# Altium footprint library Gelnar.PcbLib: 295 footprints (part 18 of 19)
Each footprint in its own frame and in the unit in brackets; x right, y up, seen from the top. Pads: shape width x height; smd on the part's side, far side on the other; paste and mask are expansions set on the pad; w line width, h text height; cw(c..) or ccw(c..) is an arc to the next point about the centre after c.
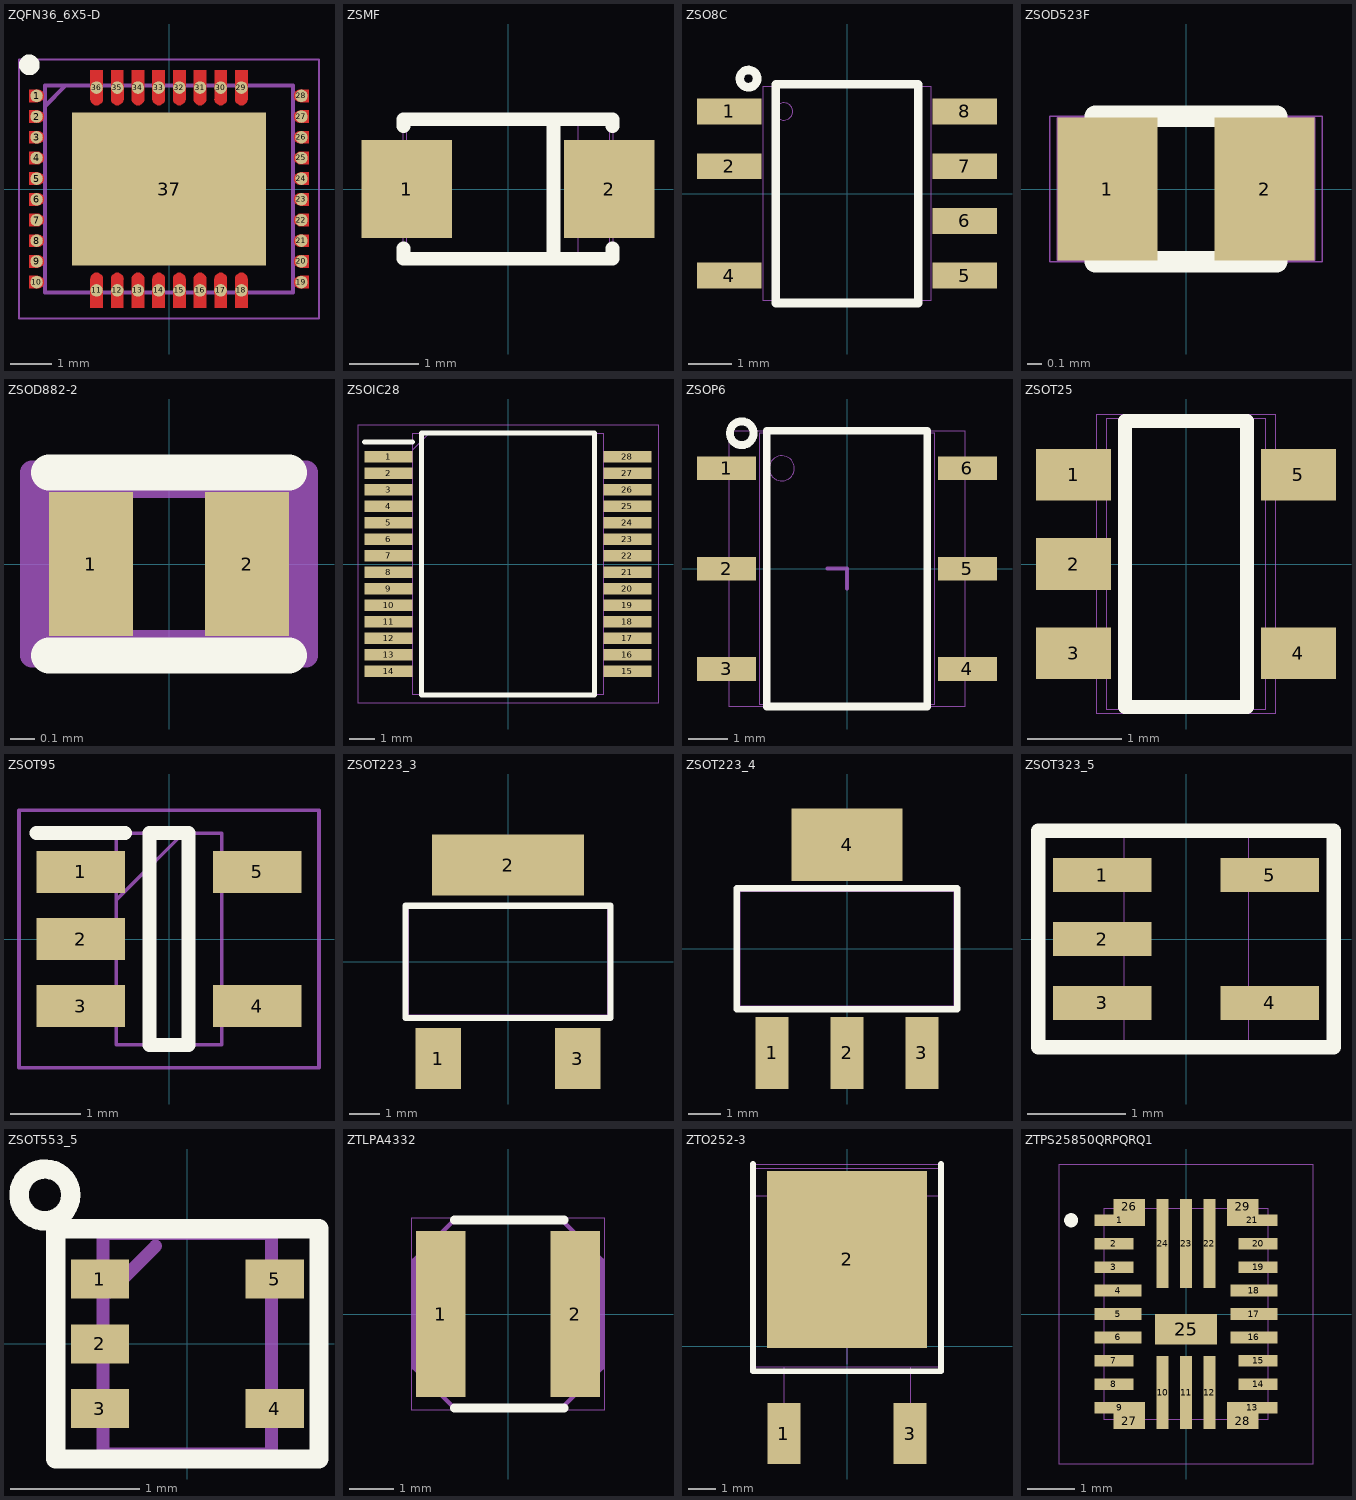
[diagram p17: the footprints below, top view; thin cyan lines are the x and y axes]

## ZQFN36_6X5-D [mm]
pads (37):
  round 0.3 smd: 1(-3.2,2.25) 2(-3.2,1.75) 3(-3.2,1.25) 4(-3.2,0.75) 5(-3.2,0.25) 6(-3.2,-0.25) 7(-3.2,-0.75) 8(-3.2,-1.25) 9(-3.2,-1.75) 10(-3.2,-2.25) 11(-1.75,-2.45) 12(-1.25,-2.45) 13(-0.75,-2.45) 14(-0.25,-2.45) 15(0.25,-2.45) 16(0.75,-2.45) 17(1.25,-2.45) 18(1.75,-2.45) 19(3.2,-2.25) 20(3.2,-1.75) 21(3.2,-1.25) 22(3.2,-0.75) 23(3.2,-0.25) 24(3.2,0.25) 25(3.2,0.75) 26(3.2,1.25) 27(3.2,1.75) 28(3.2,2.25) 29(1.75,2.45) 30(1.25,2.45) 31(0.75,2.45) 32(0.25,2.45) 33(-0.25,2.45) 34(-0.75,2.45) 35(-1.25,2.45) 36(-1.75,2.45)
  rect 4.7x3.7 smd: 37(0,0)
L1-Top Layer:
  region: -3.375,2.4 -3.175,2.401 -3.136,2.396 -3.099,2.381 -3.068,2.357 -3.044,2.326 -3.029,2.289 -3.024,2.25 -3.029,2.211 -3.044,2.174 -3.068,2.143 -3.099,2.119 -3.136,2.104 -3.175,2.099 -3.175,2.1 -3.375,2.1
  region: -3.375,1.9 -3.175,1.901 -3.136,1.896 -3.099,1.881 -3.068,1.857 -3.044,1.826 -3.029,1.789 -3.024,1.75 -3.029,1.711 -3.044,1.674 -3.068,1.643 -3.099,1.619 -3.136,1.604 -3.175,1.599 -3.175,1.6 -3.375,1.6
  region: -3.375,1.4 -3.175,1.401 -3.136,1.396 -3.099,1.381 -3.068,1.357 -3.044,1.326 -3.029,1.289 -3.024,1.25 -3.029,1.211 -3.044,1.174 -3.068,1.143 -3.099,1.119 -3.136,1.104 -3.175,1.099 -3.175,1.1 -3.375,1.1
  region: -3.375,0.9 -3.175,0.901 -3.136,0.896 -3.099,0.881 -3.068,0.857 -3.044,0.826 -3.029,0.789 -3.024,0.75 -3.029,0.711 -3.044,0.674 -3.068,0.643 -3.099,0.619 -3.136,0.604 -3.175,0.599 -3.175,0.6 -3.375,0.6
  region: -3.375,0.4 -3.175,0.401 -3.136,0.396 -3.099,0.381 -3.068,0.357 -3.044,0.326 -3.029,0.289 -3.024,0.25 -3.029,0.211 -3.044,0.174 -3.068,0.143 -3.099,0.119 -3.136,0.104 -3.175,0.099 -3.175,0.1 -3.375,0.1
  region: -3.375,-0.1 -3.175,-0.099 -3.136,-0.104 -3.099,-0.119 -3.068,-0.143 -3.044,-0.174 -3.029,-0.211 -3.024,-0.25 -3.029,-0.289 -3.044,-0.326 -3.068,-0.357 -3.099,-0.381 -3.136,-0.396 -3.175,-0.401 -3.175,-0.4 -3.375,-0.4
  region: -3.375,-0.6 -3.175,-0.599 -3.136,-0.604 -3.099,-0.619 -3.068,-0.643 -3.044,-0.674 -3.029,-0.711 -3.024,-0.75 -3.029,-0.789 -3.044,-0.826 -3.068,-0.857 -3.099,-0.881 -3.136,-0.896 -3.175,-0.901 -3.175,-0.9 -3.375,-0.9
  region: -3.375,-1.1 -3.175,-1.099 -3.136,-1.104 -3.099,-1.119 -3.068,-1.143 -3.044,-1.174 -3.029,-1.211 -3.024,-1.25 -3.029,-1.289 -3.044,-1.326 -3.068,-1.357 -3.099,-1.381 -3.136,-1.396 -3.175,-1.401 -3.175,-1.4 -3.375,-1.4
  region: -3.375,-1.6 -3.175,-1.599 -3.136,-1.604 -3.099,-1.619 -3.068,-1.643 -3.044,-1.674 -3.029,-1.711 -3.024,-1.75 -3.029,-1.789 -3.044,-1.826 -3.068,-1.857 -3.099,-1.881 -3.136,-1.896 -3.175,-1.901 -3.175,-1.9 -3.375,-1.9
  region: -3.375,-2.1 -3.175,-2.099 -3.136,-2.104 -3.099,-2.119 -3.068,-2.143 -3.044,-2.174 -3.029,-2.211 -3.024,-2.25 -3.029,-2.289 -3.044,-2.326 -3.068,-2.357 -3.099,-2.381 -3.136,-2.396 -3.175,-2.401 -3.175,-2.4 -3.375,-2.4
  region: -1.9,-2.875 -1.901,-2.175 -1.896,-2.136 -1.881,-2.099 -1.857,-2.068 -1.826,-2.044 -1.789,-2.029 -1.75,-2.024 -1.711,-2.029 -1.674,-2.044 -1.643,-2.068 -1.619,-2.099 -1.604,-2.136 -1.599,-2.175 -1.6,-2.175 -1.6,-2.875
  region: -1.4,-2.875 -1.401,-2.175 -1.396,-2.136 -1.381,-2.099 -1.357,-2.068 -1.326,-2.044 -1.289,-2.029 -1.25,-2.024 -1.211,-2.029 -1.174,-2.044 -1.143,-2.068 -1.119,-2.099 -1.104,-2.136 -1.099,-2.175 -1.1,-2.175 -1.1,-2.875
  region: -0.9,-2.875 -0.901,-2.175 -0.896,-2.136 -0.881,-2.099 -0.857,-2.068 -0.826,-2.044 -0.789,-2.029 -0.75,-2.024 -0.711,-2.029 -0.674,-2.044 -0.643,-2.068 -0.619,-2.099 -0.604,-2.136 -0.599,-2.175 -0.6,-2.175 -0.6,-2.875
  region: -0.4,-2.875 -0.401,-2.175 -0.396,-2.136 -0.381,-2.099 -0.357,-2.068 -0.326,-2.044 -0.289,-2.029 -0.25,-2.024 -0.211,-2.029 -0.174,-2.044 -0.143,-2.068 -0.119,-2.099 -0.104,-2.136 -0.099,-2.175 -0.1,-2.175 -0.1,-2.875
  region: 0.1,-2.875 0.099,-2.175 0.104,-2.136 0.119,-2.099 0.143,-2.068 0.174,-2.044 0.211,-2.029 0.25,-2.024 0.289,-2.029 0.326,-2.044 0.357,-2.068 0.381,-2.099 0.396,-2.136 0.401,-2.175 0.4,-2.175 0.4,-2.875
  region: 0.6,-2.875 0.599,-2.175 0.604,-2.136 0.619,-2.099 0.643,-2.068 0.674,-2.044 0.711,-2.029 0.75,-2.024 0.789,-2.029 0.826,-2.044 0.857,-2.068 0.881,-2.099 0.896,-2.136 0.901,-2.175 0.9,-2.175 0.9,-2.875
  region: 1.1,-2.875 1.099,-2.175 1.104,-2.136 1.119,-2.099 1.143,-2.068 1.174,-2.044 1.211,-2.029 1.25,-2.024 1.289,-2.029 1.326,-2.044 1.357,-2.068 1.381,-2.099 1.396,-2.136 1.401,-2.175 1.4,-2.175 1.4,-2.875
  region: 1.6,-2.875 1.599,-2.175 1.604,-2.136 1.619,-2.099 1.643,-2.068 1.674,-2.044 1.711,-2.029 1.75,-2.024 1.789,-2.029 1.826,-2.044 1.857,-2.068 1.881,-2.099 1.896,-2.136 1.901,-2.175 1.9,-2.175 1.9,-2.875
  region: 3.375,-2.4 3.175,-2.401 3.136,-2.396 3.099,-2.381 3.068,-2.357 3.044,-2.326 3.029,-2.289 3.024,-2.25 3.029,-2.211 3.044,-2.174 3.068,-2.143 3.099,-2.119 3.136,-2.104 3.175,-2.099 3.175,-2.1 3.375,-2.1
  region: 3.375,-1.9 3.175,-1.901 3.136,-1.896 3.099,-1.881 3.068,-1.857 3.044,-1.826 3.029,-1.789 3.024,-1.75 3.029,-1.711 3.044,-1.674 3.068,-1.643 3.099,-1.619 3.136,-1.604 3.175,-1.599 3.175,-1.6 3.375,-1.6
  region: 3.375,-1.4 3.175,-1.401 3.136,-1.396 3.099,-1.381 3.068,-1.357 3.044,-1.326 3.029,-1.289 3.024,-1.25 3.029,-1.211 3.044,-1.174 3.068,-1.143 3.099,-1.119 3.136,-1.104 3.175,-1.099 3.175,-1.1 3.375,-1.1
  region: 3.375,-0.9 3.175,-0.901 3.136,-0.896 3.099,-0.881 3.068,-0.857 3.044,-0.826 3.029,-0.789 3.024,-0.75 3.029,-0.711 3.044,-0.674 3.068,-0.643 3.099,-0.619 3.136,-0.604 3.175,-0.599 3.175,-0.6 3.375,-0.6
  region: 3.375,-0.4 3.175,-0.401 3.136,-0.396 3.099,-0.381 3.068,-0.357 3.044,-0.326 3.029,-0.289 3.024,-0.25 3.029,-0.211 3.044,-0.174 3.068,-0.143 3.099,-0.119 3.136,-0.104 3.175,-0.099 3.175,-0.1 3.375,-0.1
  region: 3.375,0.1 3.175,0.099 3.136,0.104 3.099,0.119 3.068,0.143 3.044,0.174 3.029,0.211 3.024,0.25 3.029,0.289 3.044,0.326 3.068,0.357 3.099,0.381 3.136,0.396 3.175,0.401 3.175,0.4 3.375,0.4
  region: 3.375,0.6 3.175,0.599 3.136,0.604 3.099,0.619 3.068,0.643 3.044,0.674 3.029,0.711 3.024,0.75 3.029,0.789 3.044,0.826 3.068,0.857 3.099,0.881 3.136,0.896 3.175,0.901 3.175,0.9 3.375,0.9
  region: 3.375,1.1 3.175,1.099 3.136,1.104 3.099,1.119 3.068,1.143 3.044,1.174 3.029,1.211 3.024,1.25 3.029,1.289 3.044,1.326 3.068,1.357 3.099,1.381 3.136,1.396 3.175,1.401 3.175,1.4 3.375,1.4
  region: 3.375,1.6 3.175,1.599 3.136,1.604 3.099,1.619 3.068,1.643 3.044,1.674 3.029,1.711 3.024,1.75 3.029,1.789 3.044,1.826 3.068,1.857 3.099,1.881 3.136,1.896 3.175,1.901 3.175,1.9 3.375,1.9
  region: 3.375,2.1 3.175,2.099 3.136,2.104 3.099,2.119 3.068,2.143 3.044,2.174 3.029,2.211 3.024,2.25 3.029,2.289 3.044,2.326 3.068,2.357 3.099,2.381 3.136,2.396 3.175,2.401 3.175,2.4 3.375,2.4
  region: 1.9,2.875 1.901,2.175 1.896,2.136 1.881,2.099 1.857,2.068 1.826,2.044 1.789,2.029 1.75,2.024 1.711,2.029 1.674,2.044 1.643,2.068 1.619,2.099 1.604,2.136 1.599,2.175 1.6,2.175 1.6,2.875
  region: 1.4,2.875 1.401,2.175 1.396,2.136 1.381,2.099 1.357,2.068 1.326,2.044 1.289,2.029 1.25,2.024 1.211,2.029 1.174,2.044 1.143,2.068 1.119,2.099 1.104,2.136 1.099,2.175 1.1,2.175 1.1,2.875
  region: 0.9,2.875 0.901,2.175 0.896,2.136 0.881,2.099 0.857,2.068 0.826,2.044 0.789,2.029 0.75,2.024 0.711,2.029 0.674,2.044 0.643,2.068 0.619,2.099 0.604,2.136 0.599,2.175 0.6,2.175 0.6,2.875
  region: 0.4,2.875 0.401,2.175 0.396,2.136 0.381,2.099 0.357,2.068 0.326,2.044 0.289,2.029 0.25,2.024 0.211,2.029 0.174,2.044 0.143,2.068 0.119,2.099 0.104,2.136 0.099,2.175 0.1,2.175 0.1,2.875
  region: -0.1,2.875 -0.099,2.175 -0.104,2.136 -0.119,2.099 -0.143,2.068 -0.174,2.044 -0.211,2.029 -0.25,2.024 -0.289,2.029 -0.326,2.044 -0.357,2.068 -0.381,2.099 -0.396,2.136 -0.401,2.175 -0.4,2.175 -0.4,2.875
  region: -0.6,2.875 -0.599,2.175 -0.604,2.136 -0.619,2.099 -0.643,2.068 -0.674,2.044 -0.711,2.029 -0.75,2.024 -0.789,2.029 -0.826,2.044 -0.857,2.068 -0.881,2.099 -0.896,2.136 -0.901,2.175 -0.9,2.175 -0.9,2.875
  region: -1.1,2.875 -1.099,2.175 -1.104,2.136 -1.119,2.099 -1.143,2.068 -1.174,2.044 -1.211,2.029 -1.25,2.024 -1.289,2.029 -1.326,2.044 -1.357,2.068 -1.381,2.099 -1.396,2.136 -1.401,2.175 -1.4,2.175 -1.4,2.875
  region: -1.6,2.875 -1.599,2.175 -1.604,2.136 -1.619,2.099 -1.643,2.068 -1.674,2.044 -1.711,2.029 -1.75,2.024 -1.789,2.029 -1.826,2.044 -1.857,2.068 -1.881,2.099 -1.896,2.136 -1.901,2.175 -1.9,2.175 -1.9,2.875
Top Overlay:
  circle w0.25: c-3.375,3 r0.125
Mechanical 15:
  lines w0.1: -3,2 -2.5,2.5 ; -3,-2.5 3,-2.5 3,2.5 -3,2.5 -3,-2.5
Mechanical 20:
  lines w0.05: -3.625,-3.125 3.625,-3.125 3.625,3.125 -3.625,3.125 -3.625,-3.125

## ZSMF [mm]
pads (2):
  rect 1.3x1.4 smd paste-0.075 mask+0.05: 1(-1.45,0) 2(1.45,0)
Top Overlay:
  lines w0.2: -1.5,-0.85 -1.5,-1 1.5,-1 1.5,-0.85 ; -1.5,0.9 -1.5,1 1.5,1 1.5,0.9 ; 0.65,-1 0.65,1
Mechanical 15:
  lines w0.01: 1.45,-0.95 1.45,0.95 ; 1.45,-0.95 -1.45,-0.95 -1.45,0.95 1.45,0.95 ; 1.45,-0.95 1,-0.95 1,0.95 1.45,0.95
Multi-Layer:
  text "Value" at -1.19,-0.98 h0.75
Mechanical 20:
  lines w0.01: -1.5,-1 1.5,-1 1.5,1 -1.5,1 -1.5,-1

## ZSO8C [mm]
height 1.75
pads (7):
  rect 1.5x0.6 smd paste-0.115 mask+0.05: 1(-2.73,1.905) 2(-2.73,0.635) 4(-2.73,-1.905) 5(2.73,-1.905) 6(2.73,-0.635) 7(2.73,0.635) 8(2.73,1.905)
Top Overlay:
  circle w0.2: c-2.286,2.667 r0.2
  lines w0.2: -1.651,-2.54 1.651,-2.54 1.651,2.54 -1.651,2.54 -1.651,-2.54
Mechanical 15:
  circle w0.01: c-1.46,1.905 r0.2
  lines w0.01: -1.95,-2.476 1.95,-2.476 1.95,2.476 -1.95,2.476 -1.95,-2.476
Multi-Layer:
  text "Value" at -1.127,-1.396 h0.75
Mechanical 20:
  lines w0.01: -1.651,-2.54 1.651,-2.54 1.651,2.54 -1.651,2.54 -1.651,-2.54

## ZSOD523F [mm]
pads (2):
  rect 0.7x1 smd paste-0.085 mask+0.05: 1(-0.55,0) 2(0.55,0)
Top Overlay:
  lines w0.15: -0.635,-0.508 0.635,-0.508 ; -0.635,0.508 0.635,0.508
Mechanical 15:
  lines w0.01: 0.635,-0.5 -0.9,-0.5 -0.9,0.5 0.635,0.5 ; 0.635,-0.5 0.635,0.5 ; 0.635,-0.5 0.9,-0.5 0.9,0.5 0.635,0.5
Mechanical 20:
  lines w0.01: -0.953,-0.508 0.953,-0.508 0.953,0.508 -0.953,0.508 -0.953,-0.508
3D body "D_SOD-523.step": height 0.63, standoff 0, extent -0.8,-0.4 0.8,0.4

## ZSOD882-2 [mm]
height 0.55
pads (2):
  rect 0.35x0.6 smd mask+0.05: 1(-0.325,0) 2(0.325,0)
Top Overlay:
  lines w0.15: -0.5,-0.381 0.5,-0.381 ; -0.5,0.381 0.5,0.381
Mechanical 15:
  lines w0.1: -0.525,-0.325 0.525,-0.325 0.525,0.325 -0.525,0.325 -0.525,-0.325
Multi-Layer:
  text "Value" at -0.925,-1.175 h0.6
Mechanical 20:
  lines w0.1: -0.572,-0.381 0.572,-0.381 0.572,0.381 -0.572,0.381 -0.572,-0.381

## ZSOIC28 [mm]
pads (28):
  rect 1.9x0.45 smd mask+0.05: 1(-4.7,4.225) 2(-4.7,3.575) 3(-4.7,2.925) 4(-4.7,2.275) 5(-4.7,1.625) 6(-4.7,0.975) 7(-4.7,0.325) 8(-4.7,-0.325) 9(-4.7,-0.975) 10(-4.7,-1.625) 11(-4.7,-2.275) 12(-4.7,-2.925) 13(-4.7,-3.575) 14(-4.7,-4.225) 15(4.7,-4.225) 16(4.7,-3.575) 17(4.7,-2.925) 18(4.7,-2.275) 19(4.7,-1.625) 20(4.7,-0.975) 21(4.7,-0.325) 22(4.7,0.325) 23(4.7,0.975) 24(4.7,1.625) 25(4.7,2.275) 26(4.7,2.925) 27(4.7,3.575) 28(4.7,4.225)
Top Overlay:
  lines w0.2: -5.65,4.8 -3.75,4.8 ; -3.4,-5.15 3.4,-5.15 3.4,5.15 -3.4,5.15 -3.4,-5.15
Mechanical 15:
  lines w0.01: -3.75,4.5 -3.1,5.15 ; -3.75,-5.15 3.75,-5.15 3.75,5.15 -3.75,5.15 -3.75,-5.15
Mechanical 20:
  lines w0.01: -5.9,-5.475 5.9,-5.475 5.9,5.475 -5.9,5.475 -5.9,-5.475

## ZSOP6 [mm]
pads (6):
  rect 1.5x0.6 smd mask+0.05: 1(-3.048,2.54) 2(-3.048,0) 3(-3.048,-2.54) 4(3.048,-2.54) 5(3.048,0) 6(3.048,2.54)
Top Overlay:
  circle w0.2: c-2.667,3.429 r0.3
  lines w0.2: -2.032,-3.492 2.032,-3.492 2.032,3.492 -2.032,3.492 -2.032,-3.492
Mechanical 15:
  circle w0.01: c-1.651,2.54 r0.318
  lines w0.01: -2.222,-3.429 2.222,-3.429 2.222,3.429 -2.222,3.429 -2.222,-3.429
Mechanical 19:
  lines w0.1: -0.5,0 0,0 0,-0.5
Mechanical 20:
  lines w0.01: -2.984,-3.492 2.984,-3.492 2.984,3.492 -2.984,3.492 -2.984,-3.492

## ZSOT25 [mm]
height 1.45
pads (5):
  rect 0.8x0.55 smd paste-0.055 mask+0.05: 1(-1.2,0.95) 2(-1.2,0) 3(-1.2,-0.95) 4(1.2,-0.953) 5(1.2,0.95)
Top Overlay:
  lines w0.15: -0.65,-1.524 0.65,-1.524 0.65,1.524 -0.65,1.524 -0.65,-1.524
Mechanical 15:
  lines w0.01: -0.85,-1.55 0.85,-1.55 0.85,1.55 -0.85,1.55 -0.85,-1.55
Mechanical 20:
  lines w0.01: -0.95,-1.6 0.95,-1.6 0.95,1.6 -0.95,1.6 -0.95,-1.6

## ZSOT95 [mm]
pads (5):
  rect 1.25x0.6 smd paste+0.05 mask+0.05: 1(-1.25,0.95) 2(-1.25,0) 3(-1.25,-0.95) 4(1.25,-0.95) 5(1.25,0.95)
Top Overlay:
  lines w0.2: -1.875,1.5 -0.625,1.5 ; -0.275,-1.5 0.275,-1.5 0.275,1.5 -0.275,1.5 -0.275,-1.5
Mechanical 15:
  lines w0.05: -0.75,0.55 0.2,1.5 ; -0.75,-1.5 0.75,-1.5 0.75,1.5 -0.75,1.5 -0.75,-1.5
Multi-Layer:
  text "Value" at 0,-0.85 h0.75
Mechanical 20:
  lines w0.05: -2.125,-1.825 2.125,-1.825 2.125,1.825 -2.125,1.825 -2.125,-1.825

## ZSOT223_3 [mm]
pads (3):
  rect 1.5x2 smd paste-0.15 mask+0.1: 1(-2.286,-3.175) 3(2.286,-3.175)
  rect 5x2 smd paste-0.375 mask+0.1: 2(0,3.175)
Top Overlay:
  lines w0.2: -3.365,-1.841 3.365,-1.841 3.365,1.841 -3.365,1.841 -3.365,-1.841
Mechanical 15:
  lines w0.1: -3.302,-1.778 3.302,-1.778 3.302,1.778 -3.302,1.778 -3.302,-1.778
Mechanical 20:
  lines w0.1: -3.365,-1.841 3.365,-1.841 3.365,1.841 -3.365,1.841 -3.365,-1.841

## ZSOT223_4 [mm]
pads (4):
  rect 1x2.2 smd paste-0.15 mask+0.05: 1(-2.286,-3.175) 2(0,-3.175) 3(2.286,-3.175)
  rect 3.4x2.2 smd paste-0.2 mask+0.05: 4(0,3.175)
Top Overlay:
  lines w0.2: -3.365,-1.841 3.365,-1.841 3.365,1.841 -3.365,1.841 -3.365,-1.841
Mechanical 15:
  lines w0.1: -3.302,-1.778 3.302,-1.778 3.302,1.778 -3.302,1.778 -3.302,-1.778
Mechanical 20:
  lines w0.1: -3.365,-1.841 3.365,-1.841 3.365,1.841 -3.365,1.841 -3.365,-1.841

## ZSOT323_5 [mm]
height 0.6
pads (5):
  rect 1x0.35 smd mask+0.05: 1(-0.85,0.65) 2(-0.85,0) 3(-0.85,-0.65) 4(0.85,-0.65) 5(0.85,0.65)
Top Overlay:
  lines w0.15: -1.5,-1.1 1.5,-1.1 1.5,1.1 -1.5,1.1 -1.5,-1.1
Mechanical 15:
  lines w0.01: -0.635,-1.079 0.635,-1.079 0.635,1.079 -0.635,1.079 -0.635,-1.079
Mechanical 20:
  lines w0.01: -1.524,-1.143 1.524,-1.143 1.524,1.143 -1.524,1.143 -1.524,-1.143 ; -1.5,-1.1 1.5,-1.1 1.5,1.1 -1.5,1.1 -1.5,-1.1

## ZSOT553_5 [mm]
height 0.6
pads (5):
  rect 0.45x0.3 smd mask+0.05: 1(-0.675,0.5) 2(-0.675,0) 3(-0.675,-0.5) 4(0.675,-0.5) 5(0.675,0.5)
Top Overlay:
  circle w0.15: c-1.1,1.15 r0.2
  lines w0.15: -1.016,-0.889 1.016,-0.889 1.016,0.889 -1.016,0.889 -1.016,-0.889
Mechanical 15:
  lines w0.1: -0.6,0.4 -0.246,0.754 ; -0.65,-0.85 0.65,-0.85 0.65,0.85 -0.65,0.85 -0.65,-0.85
Mechanical 20:
  lines w0.1: -1.016,-0.889 1.016,-0.889 1.016,0.889 -1.016,0.889 -1.016,-0.889

## ZTLPA4332 [mm]
pads (2):
  rect 1.1x3.7 smd mask+0.05: 1(-1.5,0) 2(1.5,0)
Top Overlay:
  lines w0.2: -1.2,-2.1 1.25,-2.1 ; -1.2,2.1 1.25,2.1
Mechanical 15:
  lines w0.1: -2.1,-1.2 -1.2,-2.1 1.2,-2.1 2.1,-1.2 2.1,1.2 1.2,2.1 -1.2,2.1 -2.1,1.2 -2.1,-1.2
Multi-Layer:
  text "Value" at -1.235,-1.123 h0.75
Mechanical 20:
  lines w0.01: -2.15,-2.15 2.15,-2.15 2.15,2.15 -2.15,2.15 -2.15,-2.15

## ZTO252-3 [mm]
pads (3):
  rect 1.2x2.2 smd paste-0.26 mask+0.05: 1(-2.28,-3.15)
  rect 5.8x6.4 smd paste-0.65 mask+0.05: 2(0,3.15)
  rect 1.2x2.2 smd mask+0.05: 3(2.28,-3.15)
Top Overlay:
  lines w0.2: -3.4,6.6 -3.4,-0.9 3.4,-0.9 3.4,6.6
Mechanical 15:
  lines w0.01: -3.3,5.45 3.3,5.45 ; -2.28,-3.15 -2.28,-0.75 ; 2.28,-3.15 2.28,-0.75 ; -3.3,-0.75 3.3,-0.75 3.3,6.45 -3.3,6.45 -3.3,-0.75
Multi-Layer:
  text "Value" at -1.09,1.12 h0.75
Mechanical 19:
  lines w0.01: 0,-0.635 0,0 0.635,0 ; 0,2.665 0,3.3 0.685,3.3
Mechanical 20:
  lines w0.01: -3.4,-0.9 3.4,-0.9 3.4,6.6 -3.4,6.6 -3.4,-0.9

## ZTPS25850QRPQRQ1 [mm]
pads (29):
  rect 1.075x0.25 smd mask+0.05: 1(-1.412,2) 9(-1.412,-2) 13(1.412,-2) 21(1.412,2)
  rect 0.825x0.25 smd mask+0.05: 2(-1.537,1.5) 3(-1.537,1) 7(-1.537,-1) 8(-1.537,-1.5) 14(1.537,-1.5) 15(1.537,-1) 19(1.537,1) 20(1.537,1.5)
  rect 1x0.25 smd mask+0.05: 4(-1.45,0.5) 5(-1.45,0) 6(-1.45,-0.5) 16(1.45,-0.5) 17(1.45,0) 18(1.45,0.5)
  rect 0.25x1.55 smd mask+0.05: 10(-0.5,-1.675) 11(0,-1.675) 12(0.5,-1.675)
  rect 0.25x1.9 smd mask+0.05: 22(0.5,1.5) 23(0,1.5) 24(-0.5,1.5)
  rect 1.325x0.65 smd mask+0.05: 25(0,-0.325)
  rect 0.675x0.325 smd mask+0.05: 26(-1.213,2.287) 27(-1.213,-2.287) 28(1.213,-2.287) 29(1.213,2.287)
Top Overlay:
  lines w0.2: -2.5,2 -2.5,2 ; -2.5,2 ccw(c-2.45,2) -2.4,2 ; -2.5,2 cw(c-2.45,2) -2.4,2 ; -2.5,2 -2.5,2 ; -2.5,2 ccw(c-2.45,2) -2.4,2 ; -2.4,2 -2.4,2
Mechanical 15:
  lines w0.01: -1.75,-2.25 1.75,-2.25 1.75,2.25 -1.75,2.25 -1.75,-2.25
Mechanical 20:
  lines w0.01: -2.7,-3.2 2.7,-3.2 2.7,3.2 -2.7,3.2 -2.7,-3.2